# Altium schematic symbol library CH340c.SchLib: 1 symbol
Pins are listed as number, name and electrical type; pins without a type are passive.

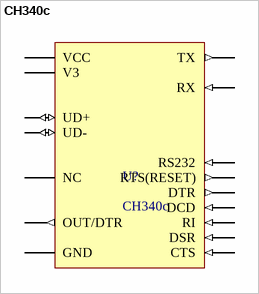
[diagram p0: symbol CH340c]

## CH340c
designator U?
USB-to-serial converter IC with built-in crystal oscillator and power-on reset, simplifying UART, I2C, or SPI communication. Ideal for compact designs requiring USB connectivity.; Manufacturer: WCH(Jiangsu Qin Heng); Manufacturer Part Number: CH340C-SSOP16; Supplier: Digi-Key; Supplier Part Number: CH340C-ND; Family: SOP-16
footprint CH340c (SOP, 16-Leads, Body 10.30x5.30mm, Pitch 1.27mm, IPC Medium Density)
footprint CH340c (SOP, 16-Leads, Body 10.30x5.30mm, Pitch 1.27mm, IPC Medium Density)
pins: 1 GND (power), 2 TX (out), 3 RX (in), 4 V3 (power), 5 UD+ (io), 6 UD- (io), 7 NC, 8 OUT/DTR (out), 9 CTS (in), 10 DSR (in), 11 RI (in), 12 DCD (in), 13 DTR (out), 14 RTS(RESET) (out), 15 RS232 (in), 16 VCC (power)